# EAGLE library part PIN1X6 (library Connector)
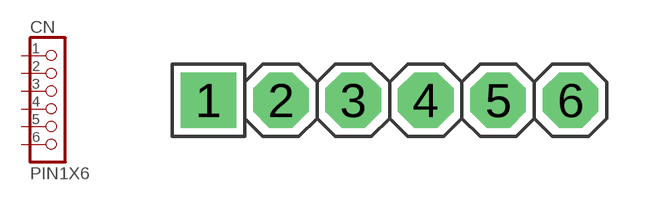
[diagram p10: symbol with the pads of PIN1X6; footprint PIN1X6]

Designator prefix CN

## PIN1X6  [PIN1X6]
1  1  pas
2  2  pas
3  3  pas
4  4  pas
5  5  pas
6  6  pas

## Footprint PIN1X6 (pad centres in mm)
drill 1.3 square: 1 -6.35,0
drill 1.3 octagon: 2 -3.81,0; 3 -1.27,0; 4 1.27,0; 5 3.81,0; 6 6.35,0